# EAGLE library part TS472_QFN (library misc)
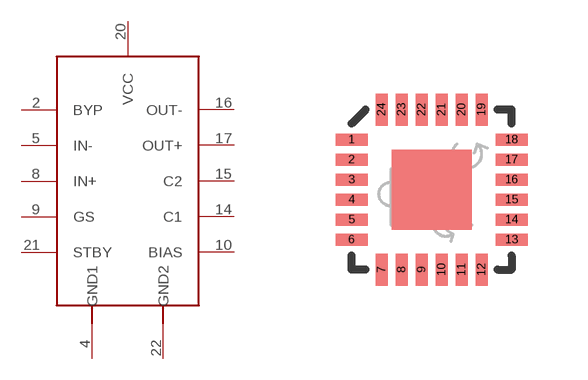
[diagram p1: symbol with the pads of QFN24; footprint QFN24]

Designator prefix -

## TS472_QFN  [QFN24]
2  BYP
4  GND1
5  IN-
8  IN+
9  GS
10  BIAS
14  C1
15  C2
16  OUT-
17  OUT+
20  VCC
21  STBY
22  GND2

## Footprint QFN24 (pad centres in mm)
smd 0.8 x 0.3: 1 -2,1.25; 2 -2,0.75; 3 -2,0.25; 4 -2,-0.25; 5 -2,-0.75; 6 -2,-1.25; 13 2,-1.25; 14 2,-0.75; 15 2,-0.25; 16 2,0.25; 17 2,0.75; 18 2,1.25
smd 0.3 x 0.8: 7 -1.25,-2; 8 -0.75,-2; 9 -0.25,-2; 10 0.25,-2; 11 0.75,-2; 12 1.25,-2; 19 1.25,2; 20 0.75,2; 21 0.25,2; 22 -0.25,2; 23 -0.75,2; 24 -1.25,2